# Altium integrated library PTS636SM50JSMTRLFS.IntLib: 2 symbols
Pins are listed as number, name and electrical type; pins without a type are passive.

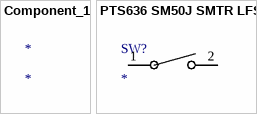
[diagram p0: symbols Component_1 to PTS636 SM50J SMTR LFS]

## Component_1
designator *

## PTS636 SM50J SMTR LFS
designator SW?
No Description Available; Mfr_Name: C&K Components; Type: Tactile Switches
footprint SW_PTS636_CNK
pins: 1, 2